# Altium schematic symbol library SCH - PASSIVES - RESISTOR.SCHLIB: 3 symbols
Pins are listed as number, name and electrical type; pins without a type are passive.

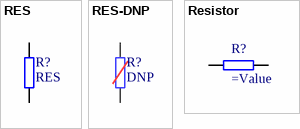
[diagram p0: symbols RES to Resistor]

## RES
designator R?
pins: 1, 2

## RES-DNP
designator R?, comment DNP  (no BOM)
No-BoM resistor
pins: 1, 2

## Resistor
designator R?
*
pins: 1, 2